# Altium footprint library Module.PcbLib: 5 footprints
Each footprint in its own frame and in the unit in brackets; x right, y up, seen from the top. Pads: shape width x height; smd on the part's side, far side on the other; paste and mask are expansions set on the pad; w line width, h text height; cw(c..) or ccw(c..) is an arc to the next point about the centre after c.
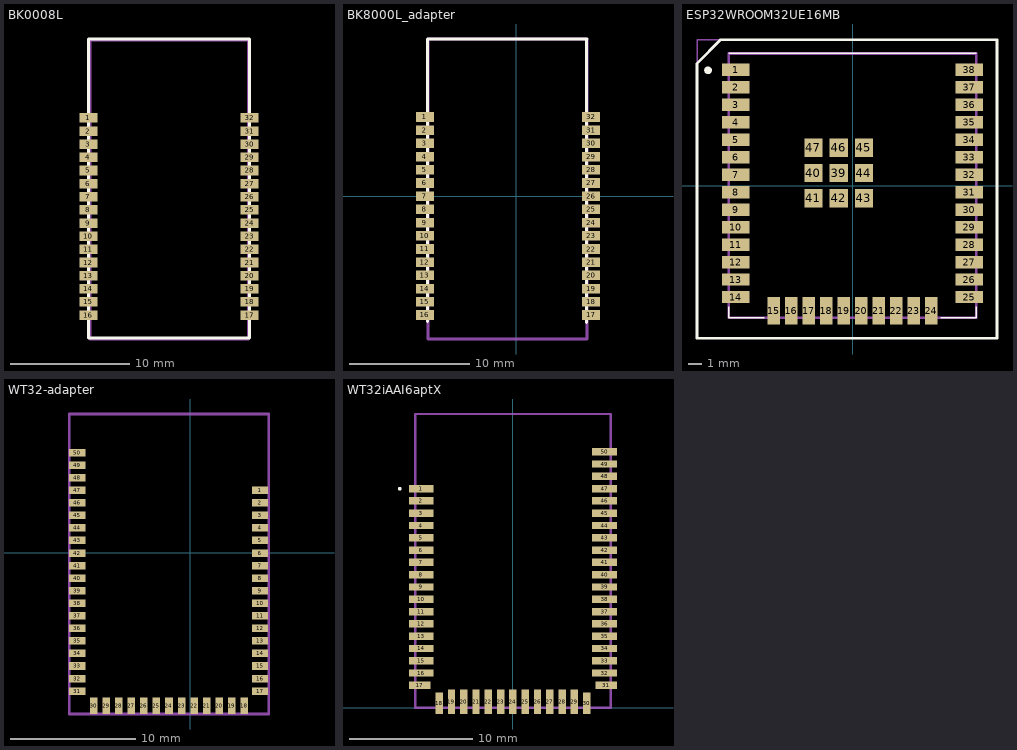
[diagram p0: the footprints below, top view; thin cyan lines are the x and y axes]

## BK0008L [mm]
pads (32):
  rect 1.5x0.8 smd: 1(-50.4,-19) 2(-50.4,-20.1) 3(-50.4,-21.2) 4(-50.4,-22.3) 5(-50.4,-23.4) 6(-50.4,-24.5) 7(-50.4,-25.6) 8(-50.4,-26.7) 9(-50.4,-27.8) 10(-50.4,-28.9) 11(-50.4,-30) 12(-50.4,-31.1) 13(-50.4,-32.2) 14(-50.4,-33.3) 15(-50.4,-34.4) 16(-50.4,-35.5) 17(-36.9,-35.5) 18(-36.9,-34.4) 19(-36.9,-33.3) 20(-36.9,-32.2) 21(-36.9,-31.1) 22(-36.9,-30) 23(-36.9,-28.9) 24(-36.9,-27.8) 25(-36.9,-26.7) 26(-36.9,-25.6) 27(-36.9,-24.5) 28(-36.9,-23.4) 29(-36.9,-22.3) 30(-36.9,-21.2) 31(-36.9,-20.1) 32(-36.9,-19)
Top Overlay:
  lines w0.254: -50.4,-37.4 -50.4,-12.4 -36.9,-12.4 -36.9,-37.4 -50.4,-37.4
Mechanical 1:
  lines w0.254: -50.25,-37.5 -37,-37.5 -37,-12.5 -50.25,-12.5 -50.25,-37.5

## BK8000L_adapter [mm]
pads (32):
  rect 1.5x0.8 smd: 1(-7.608,6.597) 2(-7.608,5.497) 3(-7.608,4.397) 4(-7.608,3.297) 5(-7.608,2.197) 6(-7.608,1.097) 7(-7.608,-0.003) 8(-7.608,-1.103) 9(-7.608,-2.203) 10(-7.608,-3.303) 11(-7.608,-4.403) 12(-7.608,-5.503) 13(-7.608,-6.603) 14(-7.608,-7.703) 15(-7.608,-8.803) 16(-7.608,-9.903) 17(6.242,-9.903) 18(6.242,-8.803) 19(6.242,-7.703) 20(6.242,-6.603) 21(6.242,-5.503) 22(6.242,-4.403) 23(6.242,-3.303) 24(6.242,-2.203) 25(6.242,-1.103) 26(6.242,-0.003) 27(6.242,1.097) 28(6.242,2.197) 29(6.242,3.297) 30(6.242,4.397) 31(6.242,5.497) 32(6.242,6.597)
Top Overlay:
  lines w0.254: -7.375,-10.45 -7.375,13.08 -7.358,13.097 5.892,13.097 ; 5.875,-10.525 5.875,13.097
Mechanical 1:
  lines w0.254: -7.358,-11.903 -7.358,13.097 5.892,13.097 5.892,-11.903 -7.358,-11.903

## ESP32WROOM32UE16MB [mm]
pads (47):
  rect 2x0.9 smd: 1(-8.5,8.41) 2(-8.5,7.14) 3(-8.5,5.87) 4(-8.5,4.6) 5(-8.5,3.33) 6(-8.5,2.06) 7(-8.5,0.79) 8(-8.5,-0.48) 9(-8.5,-1.75) 10(-8.5,-3.02) 11(-8.5,-4.29) 12(-8.5,-5.56) 13(-8.5,-6.83) 14(-8.5,-8.1) 25(8.5,-8.1) 26(8.5,-6.83) 27(8.5,-5.56) 28(8.5,-4.29) 29(8.5,-3.02) 30(8.5,-1.75) 31(8.5,-0.48) 32(8.5,0.79) 33(8.5,2.06) 34(8.5,3.33) 35(8.5,4.6) 36(8.5,5.87) 37(8.5,7.14) 38(8.5,8.41)
  rect 0.9x2 smd: 15(-5.715,-9.1) 16(-4.445,-9.1) 17(-3.175,-9.1) 18(-1.905,-9.1) 19(-0.635,-9.1) 20(0.635,-9.1) 21(1.905,-9.1) 22(3.175,-9.1) 23(4.445,-9.1) 24(5.715,-9.1)
  rect 1.33x1.33 smd: 39(-1,0.91) 40(-2.835,0.91) 41(-2.835,-0.925) 42(-1,-0.925) 43(0.835,-0.925) 44(0.835,0.91) 45(0.835,2.745) 46(-1,2.745) 47(-2.835,2.745)
Top Overlay:
  circle w0.254: c-10.5,8.375 r0.15
  lines w0.1: -9,-8.8 -9,-9.6 -6.4,-9.6 ; -9,9.6 9,9.6 ; 6.4,-9.6 9,-9.6 9,-8.8
  lines w0.2: -11.3,-11.1 10.5,-11.1 10.5,10.6 -9.575,10.6 -11.3,8.875 -11.3,-11.1
Mechanical 2:
  lines w0.2: -9,-9.6 -9,9.6 9,9.6 9,-9.6 -9,-9.6
Mechanical 3:
  lines w0.1: -11.3,-11.1 -11.3,10.6 10.5,10.6 10.5,-11.1 -11.3,-11.1
3D body "ESP32-WROOM-32UE__16MB_.stp": height 3.2, standoff 0, extent -9,-9.6 9,9.6

## WT32-adapter [mm]
pads (50):
  rect 1.3x0.6 smd: 1(5.55,4.975) 2(5.55,3.975) 3(5.55,2.975) 4(5.55,1.975) 5(5.55,0.975) 6(5.55,-0.025) 7(5.55,-1.025) 8(5.55,-2.025) 9(5.55,-3.025) 10(5.55,-4.025) 11(5.55,-5.025) 12(5.55,-6.025) 13(5.55,-7.025) 14(5.55,-8.025) 15(5.55,-9.025) 16(5.55,-10.025) 17(5.55,-11.025) 31(-9,-11.025) 32(-9,-10.025) 33(-9,-9.025) 34(-9,-8.025) 35(-9,-7.025) 36(-9,-6.025) 37(-9,-5.025) 38(-9,-4.025) 39(-9,-3.025) 40(-9,-2.025) 41(-9,-1.025) 42(-9,-0.025) 43(-9,0.975) 44(-9,1.975) 45(-9,2.975) 46(-9,3.975) 47(-9,4.975) 48(-9,5.975) 49(-9,6.975) 50(-9,7.975)
  rect 0.6x1.3 smd: 18(4.3,-12.2) 19(3.3,-12.2) 20(2.3,-12.2) 21(1.3,-12.2) 22(0.3,-12.2) 23(-0.7,-12.2) 24(-1.7,-12.2) 25(-2.7,-12.2) 26(-3.7,-12.2) 27(-4.7,-12.2) 28(-5.7,-12.2) 29(-6.7,-12.2) 30(-7.7,-12.2)
Mechanical 2 (Mech13):
  lines w0.2: -9.65,-12.85 -9.65,11.05 6.25,11.05 6.25,-12.85 -9.65,-12.85

## WT32iAAI6aptX [mm]
pads (50):
  rect 2x0.6 smd: 1(-7.45,17.83) 2(-7.45,16.83) 3(-7.45,15.83) 4(-7.45,14.83) 5(-7.45,13.83) 6(-7.45,12.83) 7(-7.45,11.83) 8(-7.45,10.83) 9(-7.45,9.83) 10(-7.45,8.83) 11(-7.45,7.83) 12(-7.45,6.83) 13(-7.45,5.83) 14(-7.45,4.83) 15(-7.45,3.83) 16(-7.45,2.83) 32(7.45,2.83) 33(7.45,3.83) 34(7.45,4.83) 35(7.45,5.83) 36(7.45,6.83) 37(7.45,7.83) 38(7.45,8.83) 39(7.45,9.83) 40(7.45,10.83) 41(7.45,11.83) 42(7.45,12.83) 43(7.45,13.83) 44(7.45,14.83) 45(7.45,15.83) 46(7.45,16.83) 47(7.45,17.83) 48(7.45,18.83) 49(7.45,19.83) 50(7.45,20.83)
  rect 1.75x0.6 smd: 17(-7.575,1.83) 31(7.575,1.83)
  rect 0.6x1.75 smd: 18(-6,0.375) 30(6,0.375)
  rect 0.6x2 smd: 19(-5,0.5) 20(-4,0.5) 21(-3,0.5) 22(-2,0.5) 23(-1,0.5) 24(0,0.5) 25(1,0.5) 26(2,0.5) 27(3,0.5) 28(4,0.5) 29(5,0.5)
Top Overlay:
  lines w0.2: -9.25,17.83 ccw(c-9.2,17.83) -9.15,17.83 ; -9.25,17.83 cw(c-9.2,17.83) -9.15,17.83 ; -9.25,17.83 ccw(c-9.2,17.83) -9.15,17.83
Mechanical 2 (Mech13):
  lines w0.2: -7.95,0 7.95,0 7.95,23.9 -7.95,23.9 -7.95,0